# Altium footprint library KT-1-7.PcbLib: 1 footprints
Each footprint in its own frame and in the unit in brackets; x right, y up, seen from the top. Pads: shape width x height; smd on the part's side, far side on the other; paste and mask are expansions set on the pad; w line width, h text height; cw(c..) or ccw(c..) is an arc to the next point about the centre after c.
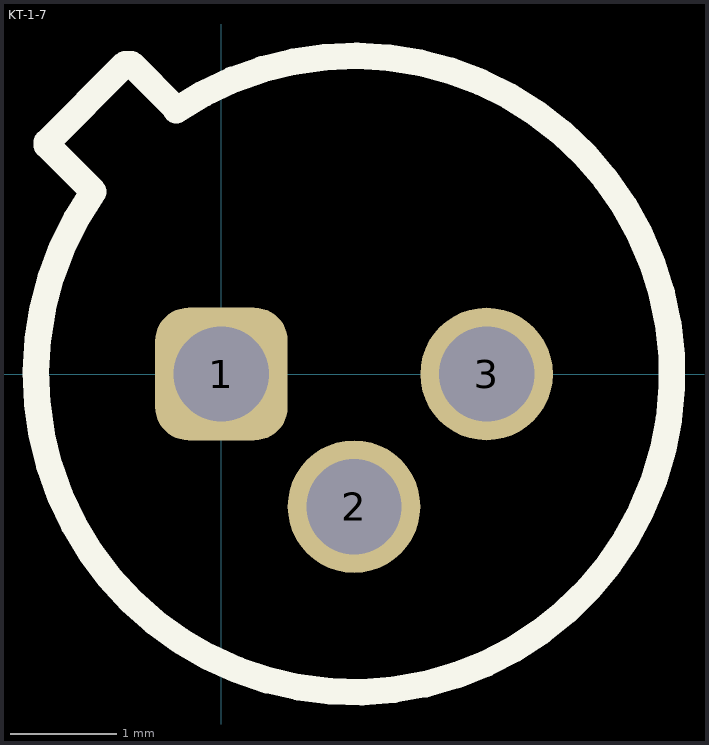
[diagram p0: the footprint, top view; thin cyan lines are the x and y axes]

## KT-1-7 [mm]
pads (3):
  rrect50% 1.25x1.25 hole 0.9: 1(0,0)
  round 1.25 hole 0.9: 2(1.25,-1.25) 3(2.5,0)
Top Overlay:
  lines w0.25: -1.21,1.717 ccw(c1.25,0) -0.425,2.489 ; -1.207,1.72 -1.646,2.159 -1.646,2.184 -0.909,2.921 -0.849,2.921 -0.443,2.515
3D body: height 5, standoff 1, extent -1.23,-2.492 3.77,2.502
3D body: height 1, standoff 0, extent -1.648,-2.911 4.192,2.922